# EAGLE library part UBX-6010 (library rs41)
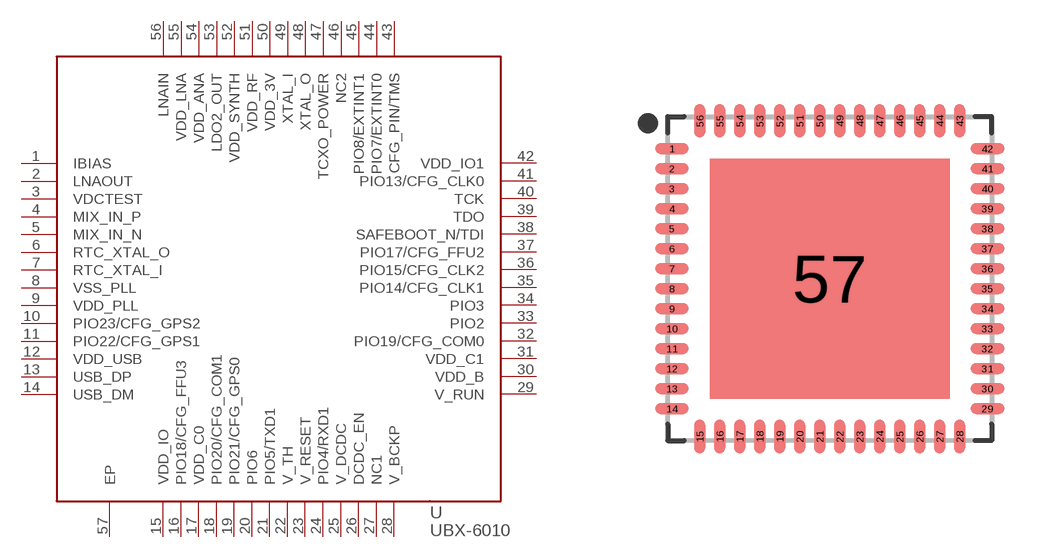
[diagram p8: symbol with the pads of QFN56_0.5MM; footprint QFN56_0.5MM]

Designator prefix U

## UBX-6010MLF56  [QFN56_0.5MM]
1  IBIAS
2  LNAOUT
3  VDCTEST
4  MIX_IN_P
5  MIX_IN_N
6  RTC_XTAL_O
7  RTC_XTAL_I
8  VSS_PLL
9  VDD_PLL
10  PIO23/CFG_GPS2
11  PIO22/CFG_GPS1
12  VDD_USB
13  USB_DP
14  USB_DM
15  VDD_IO
16  PIO18/CFG_FFU3
17  VDD_C0
18  PIO20/CFG_COM1
19  PIO21/CFG_GPS0
20  PIO6
21  PIO5/TXD1
22  V_TH
23  V_RESET
24  PIO4/RXD1
25  V_DCDC
26  DCDC_EN
27  NC1
28  V_BCKP
29  V_RUN
30  VDD_B
31  VDD_C1
32  PIO19/CFG_COM0
33  PIO2
34  PIO3
35  PIO14/CFG_CLK1
36  PIO15/CFG_CLK2
37  PIO17/CFG_FFU2
38  SAFEBOOT_N/TDI
39  TDO
40  TCK
41  PIO13/CFG_CLK0
42  VDD_IO1
43  CFG_PIN/TMS
44  PIO7/EXTINT0
45  PIO8/EXTINT1
46  NC2
47  TCXO_POWER
48  XTAL_O
49  XTAL_I
50  VDD_3V
51  VDD_RF
52  VDD_SYNTH
53  LDO2_OUT
54  VDD_ANA
55  VDD_LNA
56  LNAIN
57  EP

## Footprint QFN56_0.5MM (pad centres in mm)
56-QFN, 0.50 mm pitch, 8.00 X 8.00 X 1.00 mm body, 6.00 X 6.00 mm thermal pad 56-pin QFN package with 0.50 mm pitch with body size 8.00 X 8.00 X 1.00 mm and thermal pad size 6.00 X 6.00 mm
smd 0.838 x 0.27: 1 -3.946,3.25; 2 -3.946,2.75; 3 -3.946,2.25; 4 -3.946,1.75; 5 -3.946,1.25; 6 -3.946,0.75; 7 -3.946,0.25; 8 -3.946,-0.25; 9 -3.946,-0.75; 10 -3.946,-1.25; 11 -3.946,-1.75; 12 -3.946,-2.25; 13 -3.946,-2.75; 14 -3.946,-3.25; 29 3.946,-3.25; 30 3.946,-2.75; 31 3.946,-2.25; 32 3.946,-1.75; 33 3.946,-1.25; 34 3.946,-0.75; 35 3.946,-0.25; 36 3.946,0.25; 37 3.946,0.75; 38 3.946,1.25; 39 3.946,1.75; 40 3.946,2.25; 41 3.946,2.75; 42 3.946,3.25
smd 0.27 x 0.838: 15 -3.25,-3.946; 16 -2.75,-3.946; 17 -2.25,-3.946; 18 -1.75,-3.946; 19 -1.25,-3.946; 20 -0.75,-3.946; 21 -0.25,-3.946; 22 0.25,-3.946; 23 0.75,-3.946; 24 1.25,-3.946; 25 1.75,-3.946; 26 2.25,-3.946; 27 2.75,-3.946; 28 3.25,-3.946; 43 3.25,3.946; 44 2.75,3.946; 45 2.25,3.946; 46 1.75,3.946; 47 1.25,3.946; 48 0.75,3.946; 49 0.25,3.946; 50 -0.25,3.946; 51 -0.75,3.946; 52 -1.25,3.946; 53 -1.75,3.946; 54 -2.25,3.946; 55 -2.75,3.946; 56 -3.25,3.946
smd 6 x 6: 57 0,0